# Altium footprint library con-amp-mt.PCBLIB: 51 footprints (part 1 of 4)
Each footprint in its own frame and in the unit in brackets; x right, y up, seen from the top. Pads: shape width x height; smd on the part's side, far side on the other; paste and mask are expansions set on the pad; w line width, h text height; cw(c..) or ccw(c..) is an arc to the next point about the centre after c.
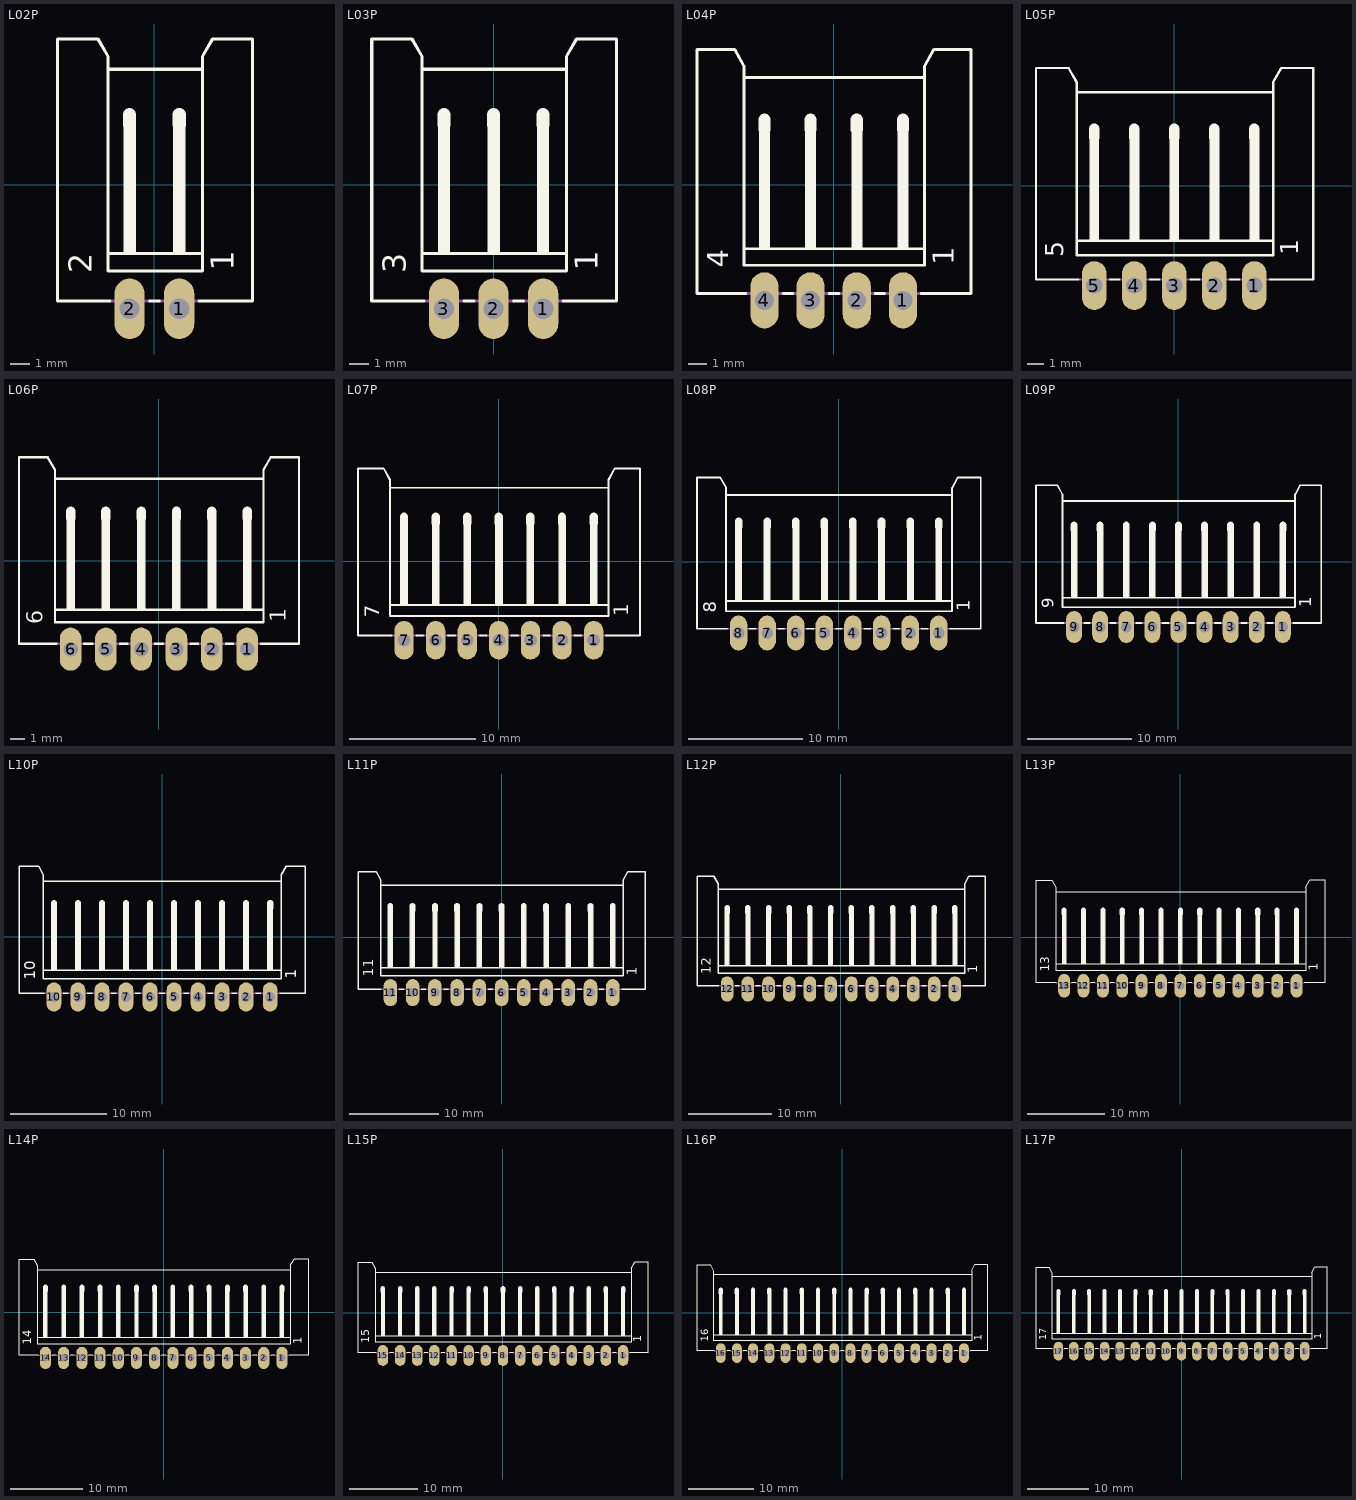
[diagram p0: the footprints below, top view; thin cyan lines are the x and y axes]

## L02P [mil]
pads (2):
  oval 60x120 hole 40: 1(49.21,-246.06) 2(-49.21,-246.06)
Top Overlay:
  rectangle: 37.21,-136.06 61.21,123.94
  rectangle: -60.79,-136.06 -36.79,123.94
  lines w6: -87.8,-231.06 -191.77,-231.06 -191.77,288.94 -111.77,288.94 -91.77,253.94 -91.77,228.94 ; -9.8,-231.06 10.2,-231.06 ; 88.23,-231.06 194.21,-231.06 194.21,288.94 115.2,288.94 95.2,253.94 95.2,228.94 ; -91.77,-136.06 95.2,-136.06 ; -91.77,-136.06 -91.77,-171.06 95.2,-171.06 95.2,-136.06 ; -91.77,-136.06 -91.77,228.94 ; -91.77,228.94 95.2,228.94 ; 95.2,-136.06 95.2,228.94
  lines w26: -49.21,118.94 -49.21,138.94 ; 49.21,118.94 49.21,138.94
  text "1" at 172.21,-171.06 h77.5
  text "2" at -109.79,-176.06 h77.5
Mechanical 16:
  rectangle: 37.21,-256.06 61.21,-231.06
  rectangle: -60.79,-256.06 -36.79,-231.06
  lines w6: -87.8,-231.06 -9.8,-231.06 ; 10.2,-231.06 88.23,-231.06

## L03P [mil]
pads (3):
  oval 60x120 hole 40: 1(98.43,-246.06) 2(0,-246.06) 3(-98.43,-246.06)
Top Overlay:
  rectangle: 86.43,-136.06 110.43,123.94
  rectangle: -11.57,-136.06 12.43,123.94
  rectangle: -110.57,-136.06 -86.57,123.94
  lines w6: -137.56,-231.06 -241.57,-231.06 -241.57,288.94 -161.57,288.94 -141.57,253.94 -141.57,228.94 ; -58.58,-231.06 -38.58,-231.06 ; 39.41,-231.06 59.41,-231.06 ; 137.44,-231.06 243.43,-231.06 243.43,288.94 164.41,288.94 144.41,253.94 144.41,228.94 ; -141.57,-136.06 144.41,-136.06 ; -141.57,-136.06 -141.57,-171.06 144.41,-171.06 144.41,-136.06 ; -141.57,-136.06 -141.57,228.94 ; -141.57,228.94 144.41,228.94 ; 144.41,-136.06 144.41,228.94
  lines w26: -98.58,118.94 -98.58,138.94 ; 0,118.94 0,138.94 ; 98.43,118.94 98.43,138.94
  text "1" at 221.43,-171.06 h77.5
  text "3" at -159.57,-176.06 h77.5
Mechanical 16:
  rectangle: 86.43,-256.06 110.43,-231.06
  rectangle: -11.57,-256.06 12.43,-231.06
  rectangle: -110.57,-256.06 -86.57,-231.06
  lines w6: -136.57,-231.06 -58.58,-231.06 ; -38.58,-231.06 39.41,-231.06 ; 59.41,-231.06 137.44,-231.06

## L04P [mil]
pads (4):
  oval 60x120 hole 40: 1(147.64,-246.06) 2(49.21,-246.06) 3(-49.21,-246.06) 4(-147.64,-246.06)
Top Overlay:
  rectangle: 135.64,-136.06 159.64,123.94
  rectangle: 37.64,-136.06 61.64,123.94
  rectangle: -61.36,-136.06 -37.36,123.94
  rectangle: -159.36,-136.06 -135.36,123.94
  lines w6: -187.36,-231.06 -291.38,-231.06 -291.38,288.94 -211.38,288.94 -191.38,253.94 -191.38,228.94 ; -108.35,-231.06 -87.36,-231.06 ; -9.37,-231.06 10.63,-231.06 ; 88.62,-231.06 108.62,-231.06 ; 186.65,-231.06 292.64,-231.06 292.64,288.94 213.62,288.94 193.62,253.94 193.62,228.94 ; -191.38,-136.06 193.62,-136.06 ; -191.38,-136.06 -191.38,-171.06 193.62,-171.06 193.62,-136.06 ; -191.38,-136.06 -191.38,228.94 ; -191.38,228.94 193.62,228.94 ; 193.62,-136.06 193.62,228.94
  lines w26: -147.64,118.94 -147.64,138.94 ; -49.37,118.94 -49.37,138.94 ; 49.21,118.94 49.21,138.94 ; 147.64,118.94 147.64,138.94
  text "1" at 270.64,-171.06 h77.5
  text "4" at -209.36,-176.06 h77.5
Mechanical 16:
  rectangle: 135.64,-256.06 159.64,-231.06
  rectangle: 37.64,-256.06 61.64,-231.06
  rectangle: -61.36,-256.06 -37.36,-231.06
  rectangle: -159.36,-256.06 -135.36,-231.06
  lines w6: -186.38,-231.06 -108.35,-231.06 ; -87.36,-231.06 -9.37,-231.06 ; 10.63,-231.06 88.62,-231.06 ; 108.62,-231.06 186.65,-231.06

## L05P [mil]
pads (5):
  oval 60x120 hole 40: 1(196.85,-246.06) 2(98.43,-246.06) 3(0,-246.06) 4(-98.43,-246.06) 5(-196.85,-246.06)
Top Overlay:
  rectangle: 184.85,-136.06 208.85,123.94
  rectangle: 86.85,-136.06 110.85,123.94
  rectangle: -12.15,-136.06 11.85,123.94
  rectangle: -110.15,-136.06 -86.15,123.94
  rectangle: -209.15,-136.06 -185.15,123.94
  lines w6: -236.14,-231.06 -340.16,-231.06 -340.16,288.94 -260.16,288.94 -240.16,253.94 -240.16,228.94 ; -157.17,-231.06 -137.17,-231.06 ; -59.13,-231.06 -38.15,-231.06 ; 39.84,-231.06 59.84,-231.06 ; 137.83,-231.06 157.83,-231.06 ; 235.87,-231.06 341.85,-231.06 341.85,288.94 262.83,288.94 242.83,253.94 242.83,228.94 ; -240.16,-136.06 242.83,-136.06 ; -240.16,-136.06 -240.16,-171.06 242.83,-171.06 242.83,-136.06 ; -240.16,-136.06 -240.16,228.94 ; -240.16,228.94 242.83,228.94 ; 242.83,-136.06 242.83,228.94
  lines w26: -197.17,118.94 -197.17,138.94 ; -98.43,118.94 -98.43,138.94 ; -0.16,118.94 -0.16,138.94 ; 98.43,118.94 98.43,138.94 ; 196.85,118.94 196.85,138.94
  text "1" at 319.85,-171.06 h77.5
  text "5" at -258.15,-176.06 h77.5
Mechanical 16:
  rectangle: 184.85,-256.06 208.85,-231.06
  rectangle: 86.85,-256.06 110.85,-231.06
  rectangle: -12.15,-256.06 11.85,-231.06
  rectangle: -110.15,-256.06 -86.15,-231.06
  rectangle: -209.15,-256.06 -185.15,-231.06
  lines w6: -234.13,-231.06 -157.17,-231.06 ; -137.17,-231.06 -59.13,-231.06 ; -38.15,-231.06 39.84,-231.06 ; 59.84,-231.06 137.83,-231.06 ; 157.83,-231.06 235.87,-231.06

## L06P [mil]
pads (6):
  oval 60x120 hole 40: 1(246.06,-246.06) 2(147.64,-246.06) 3(49.21,-246.06) 4(-49.21,-246.06) 5(-147.64,-246.06) 6(-246.06,-246.06)
Top Overlay:
  rectangle: 234.06,-136.06 258.06,123.94
  rectangle: 136.06,-136.06 160.06,123.94
  rectangle: 37.06,-136.06 61.06,123.94
  rectangle: -60.94,-136.06 -36.94,123.94
  rectangle: -159.94,-136.06 -135.94,123.94
  rectangle: -257.94,-136.06 -233.94,123.94
  lines w6: -285.94,-231.06 -389.94,-231.06 -389.94,288.94 -309.94,288.94 -289.92,253.94 -289.92,228.94 ; -207.95,-231.06 -184.92,-231.06 ; -107.95,-231.06 -87.95,-231.06 ; -9.92,-231.06 11.06,-231.06 ; 89.06,-231.06 109.06,-231.06 ; 187.06,-231.06 207.06,-231.06 ; 285.06,-231.06 391.06,-231.06 391.06,288.94 312.06,288.94 292.05,253.94 292.05,228.94 ; -289.94,-136.06 292.06,-136.06 ; -289.94,-136.06 -289.94,-171.06 292.06,-171.06 292.06,-136.06 ; -289.94,-136.06 -289.92,228.94 ; -289.92,228.94 292.05,228.94 ; 292.06,-136.06 292.05,228.94
  lines w26: -245.94,118.94 -245.94,138.94 ; -147.95,118.94 -147.94,138.94 ; -49.21,118.94 -49.21,138.94 ; 49.06,118.94 49.06,138.94 ; 147.64,118.94 147.64,138.94 ; 246.06,118.94 246.06,138.94
  text "1" at 369.06,-171.06 h77.5
  text "6" at -307.94,-176.06 h77.5
Mechanical 16:
  rectangle: 234.06,-256.06 258.06,-231.06
  rectangle: 136.06,-256.06 160.06,-231.06
  rectangle: 37.06,-256.06 61.06,-231.06
  rectangle: -60.94,-256.06 -36.94,-231.06
  rectangle: -159.94,-256.06 -135.94,-231.06
  rectangle: -257.94,-256.06 -233.94,-231.06
  lines w6: -285.94,-231.06 -207.95,-231.06 ; -184.92,-231.06 -107.95,-231.06 ; -87.95,-231.06 -9.92,-231.06 ; 11.06,-231.06 89.06,-231.06 ; 109.06,-231.06 187.06,-231.06 ; 207.06,-231.06 285.06,-231.06

## L07P [mil]
pads (7):
  oval 60x120 hole 40: 1(295.28,-246.06) 2(196.85,-246.06) 3(98.43,-246.06) 4(0,-246.06) 5(-98.43,-246.06) 6(-196.85,-246.06) 7(-295.28,-246.06)
Top Overlay:
  rectangle: 283.28,-136.06 307.28,123.94
  rectangle: 185.28,-136.06 209.28,123.94
  rectangle: 86.28,-136.06 110.28,123.94
  rectangle: -11.72,-136.06 12.28,123.94
  rectangle: -110.72,-136.06 -86.72,123.94
  rectangle: -208.72,-136.06 -184.72,123.94
  rectangle: -307.72,-136.06 -283.72,123.94
  lines w6: -334.72,-231.06 -438.74,-231.06 -438.74,288.94 -358.74,288.94 -338.74,253.94 -338.74,228.94 ; -256.73,-231.06 -236.73,-231.06 ; -158.74,-231.06 -135.71,-231.06 ; -58.74,-231.06 -38.74,-231.06 ; 39.29,-231.06 60.28,-231.06 ; 138.27,-231.06 158.27,-231.06 ; 236.26,-231.06 256.26,-231.06 ; 334.29,-231.06 440.28,-231.06 440.28,288.94 361.26,288.94 341.26,253.94 341.26,228.94 ; -338.74,-136.06 341.26,-136.06 ; -338.74,-136.06 -338.74,-171.06 341.26,-171.06 341.26,-136.06 ; -338.74,-136.06 -338.74,228.94 ; -338.74,228.94 341.26,228.94 ; 341.26,-136.06 341.26,228.94
  lines w26: -295.28,118.94 -295.28,138.94 ; -196.73,118.94 -196.73,138.94 ; -98.74,118.94 -98.74,138.94 ; 0,118.94 0,138.94 ; 98.27,118.94 98.27,138.94 ; 196.85,118.94 196.85,138.94 ; 295.28,118.94 295.28,138.94
  text "1" at 418.28,-171.06 h77.5
  text "7" at -356.72,-176.06 h77.5
Mechanical 16:
  rectangle: 283.28,-256.06 307.28,-231.06
  rectangle: 185.28,-256.06 209.28,-231.06
  rectangle: 86.28,-256.06 110.28,-231.06
  rectangle: -11.72,-256.06 12.28,-231.06
  rectangle: -110.72,-256.06 -86.72,-231.06
  rectangle: -208.72,-256.06 -184.72,-231.06
  rectangle: -307.72,-256.06 -283.72,-231.06
  lines w6: -334.72,-231.06 -256.73,-231.06 ; -236.73,-231.06 -158.74,-231.06 ; -135.71,-231.06 -58.74,-231.06 ; -38.74,-231.06 39.29,-231.06 ; 60.28,-231.06 138.27,-231.06 ; 158.27,-231.06 236.26,-231.06 ; 256.26,-231.06 334.29,-231.06

## L08P [mil]
pads (8):
  oval 60x120 hole 40: 1(344.49,-246.06) 2(246.06,-246.06) 3(147.64,-246.06) 4(49.21,-246.06) 5(-49.21,-246.06) 6(-147.64,-246.06) 7(-246.06,-246.06) 8(-344.49,-246.06)
Top Overlay:
  rectangle: 332.49,-136.06 356.49,123.94
  rectangle: 234.49,-136.06 258.49,123.94
  rectangle: 135.49,-136.06 159.49,123.94
  rectangle: 37.49,-136.06 61.49,123.94
  rectangle: -61.51,-136.06 -37.51,123.94
  rectangle: -159.51,-136.06 -135.51,123.94
  rectangle: -258.51,-136.06 -234.51,123.94
  rectangle: -356.51,-136.06 -332.51,123.94
  lines w6: -383.5,-231.06 -487.52,-231.06 -487.52,288.94 -407.52,288.94 -387.52,253.94 -387.52,228.94 ; -306.5,-231.06 -285.51,-231.06 ; -207.52,-231.06 -187.52,-231.06 ; -109.53,-231.06 -86.5,-231.06 ; -9.53,-231.06 10.47,-231.06 ; 88.5,-231.06 109.49,-231.06 ; 187.48,-231.06 207.48,-231.06 ; 285.47,-231.06 305.47,-231.06 ; 383.5,-231.06 489.49,-231.06 489.49,288.94 410.47,288.94 390.47,253.94 390.47,228.94 ; -387.52,-136.06 390.47,-136.06 ; -387.52,-136.06 -387.52,-171.06 390.47,-171.06 390.47,-136.06 ; -387.52,-136.06 -387.52,228.94 ; -387.52,228.94 390.47,228.94 ; 390.47,-136.06 390.47,228.94
  lines w26: -344.53,118.94 -344.53,138.94 ; -246.06,118.94 -246.06,138.94 ; -147.52,118.94 -147.52,138.94 ; -49.53,118.94 -49.53,138.94 ; 49.21,118.94 49.21,138.94 ; 147.48,118.94 147.48,138.94 ; 246.06,118.94 246.06,138.94 ; 344.49,118.94 344.49,138.94
  text "1" at 467.49,-171.06 h77.5
  text "8" at -405.51,-176.06 h77.5
Mechanical 16:
  rectangle: 332.49,-256.06 356.49,-231.06
  rectangle: 234.49,-256.06 258.49,-231.06
  rectangle: 135.49,-256.06 159.49,-231.06
  rectangle: 37.49,-256.06 61.49,-231.06
  rectangle: -61.51,-256.06 -37.51,-231.06
  rectangle: -159.51,-256.06 -135.51,-231.06
  rectangle: -258.51,-256.06 -234.51,-231.06
  rectangle: -356.51,-256.06 -332.51,-231.06
  lines w6: -384.53,-231.06 -306.5,-231.06 ; -285.51,-231.06 -207.52,-231.06 ; -187.52,-231.06 -109.53,-231.06 ; -86.5,-231.06 -9.53,-231.06 ; 10.47,-231.06 88.5,-231.06 ; 109.49,-231.06 187.48,-231.06 ; 207.48,-231.06 285.47,-231.06 ; 305.47,-231.06 383.5,-231.06

## L09P [mil]
pads (9):
  oval 60x120 hole 40: 1(393.7,-246.06) 2(295.28,-246.06) 3(196.85,-246.06) 4(98.43,-246.06) 5(0,-246.06) 6(-98.43,-246.06) 7(-196.85,-246.06) 8(-295.28,-246.06) 9(-393.7,-246.06)
Top Overlay:
  rectangle: 381.7,-136.06 405.7,123.94
  rectangle: 283.7,-136.06 307.7,123.94
  rectangle: 184.7,-136.06 208.7,123.94
  rectangle: 86.7,-136.06 110.7,123.94
  rectangle: -12.3,-136.06 11.7,123.94
  rectangle: -110.3,-136.06 -86.3,123.94
  rectangle: -209.3,-136.06 -185.3,123.94
  rectangle: -307.3,-136.06 -283.3,123.94
  rectangle: -405.3,-136.06 -381.3,123.94
  lines w6: -433.31,-231.06 -537.28,-231.06 -537.28,288.94 -457.28,288.94 -437.28,253.94 -437.28,228.94 ; -355.32,-231.06 -335.32,-231.06 ; -257.28,-231.06 -236.3,-231.06 ; -158.31,-231.06 -138.31,-231.06 ; -60.32,-231.06 -37.28,-231.06 ; 39.69,-231.06 59.69,-231.06 ; 137.72,-231.06 158.7,-231.06 ; 236.69,-231.06 256.69,-231.06 ; 334.69,-231.06 354.69,-231.06 ; 432.72,-231.06 538.7,-231.06 538.7,288.94 459.69,288.94 439.69,253.94 439.69,228.94 ; -437.28,-136.06 439.69,-136.06 ; -437.28,-136.06 -437.28,-171.06 439.69,-171.06 439.69,-136.06 ; -437.28,-136.06 -437.28,228.94 ; -437.28,228.94 439.69,228.94 ; 439.69,-136.06 439.69,228.94
  lines w26: -393.31,118.94 -393.31,138.94 ; -295.32,118.94 -295.32,138.94 ; -196.85,118.94 -196.85,138.94 ; -98.31,118.94 -98.31,138.94 ; -0.32,118.94 -0.32,138.94 ; 98.43,118.94 98.43,138.94 ; 196.69,118.94 196.69,138.94 ; 295.28,118.94 295.28,138.94 ; 393.7,118.94 393.7,138.94
  text "1" at 516.7,-171.06 h77.5
  text "9" at -455.3,-176.06 h77.5
Mechanical 16:
  rectangle: 381.7,-256.06 405.7,-231.06
  rectangle: 283.7,-256.06 307.7,-231.06
  rectangle: 184.7,-256.06 208.7,-231.06
  rectangle: 86.7,-256.06 110.7,-231.06
  rectangle: -12.3,-256.06 11.7,-231.06
  rectangle: -110.3,-256.06 -86.3,-231.06
  rectangle: -209.3,-256.06 -185.3,-231.06
  rectangle: -307.3,-256.06 -283.3,-231.06
  rectangle: -405.3,-256.06 -381.3,-231.06
  lines w6: -433.31,-231.06 -355.32,-231.06 ; -335.32,-231.06 -257.28,-231.06 ; -236.3,-231.06 -158.31,-231.06 ; -138.31,-231.06 -60.32,-231.06 ; -37.28,-231.06 39.69,-231.06 ; 59.69,-231.06 137.72,-231.06 ; 158.7,-231.06 236.69,-231.06 ; 256.69,-231.06 334.69,-231.06 ; 354.69,-231.06 432.72,-231.06

## L10P [mil]
pads (10):
  oval 60x120 hole 40: 1(442.91,-246.06) 2(344.49,-246.06) 3(246.06,-246.06) 4(147.64,-246.06) 5(49.21,-246.06) 6(-49.21,-246.06) 7(-147.64,-246.06) 8(-246.06,-246.06) 9(-344.49,-246.06) 10(-442.91,-246.06)
Top Overlay:
  rectangle: 430.91,-136.06 454.91,123.94
  rectangle: 332.91,-136.06 356.91,123.94
  rectangle: 233.91,-136.06 257.91,123.94
  rectangle: 135.91,-136.06 159.91,123.94
  rectangle: 36.91,-136.06 60.91,123.94
  rectangle: -61.09,-136.06 -37.09,123.94
  rectangle: -160.09,-136.06 -136.09,123.94
  rectangle: -258.09,-136.06 -234.09,123.94
  rectangle: -356.09,-136.06 -332.09,123.94
  rectangle: -455.09,-136.06 -431.09,123.94
  lines w6: -482.09,-231.06 -586.1,-231.06 -586.1,288.94 -506.1,288.94 -486.1,253.94 -486.1,228.94 ; -404.09,-231.06 -384.09,-231.06 ; -306.1,-231.06 -286.1,-231.06 ; -208.07,-231.06 -187.09,-231.06 ; -109.09,-231.06 -89.09,-231.06 ; -11.1,-231.06 11.93,-231.06 ; 88.9,-231.06 108.9,-231.06 ; 186.93,-231.06 207.91,-231.06 ; 285.91,-231.06 305.91,-231.06 ; 383.9,-231.06 403.9,-231.06 ; 481.93,-231.06 587.91,-231.06 587.91,288.94 508.9,288.94 488.9,253.94 488.9,228.94 ; -486.1,-136.06 488.9,-136.06 ; -486.1,-136.06 -486.1,-171.06 488.9,-171.06 488.9,-136.06 ; -486.1,-136.06 -486.1,228.94 ; -486.1,228.94 488.9,228.94 ; 488.9,-136.06 488.9,228.94
  lines w26: -442.91,118.94 -442.91,138.94 ; -344.09,118.94 -344.09,138.94 ; -246.1,118.94 -246.1,138.94 ; -147.64,118.94 -147.64,138.94 ; -49.09,118.94 -49.09,138.94 ; 48.9,118.94 48.9,138.94 ; 147.64,118.94 147.64,138.94 ; 245.91,118.94 245.91,138.94 ; 344.49,118.94 344.49,138.94 ; 442.91,118.94 442.91,138.94
  text "1" at 565.91,-171.06 h77.5
  text "10" at -504.09,-176.06 h77.5
Mechanical 16:
  rectangle: 430.91,-256.06 454.91,-231.06
  rectangle: 332.91,-256.06 356.91,-231.06
  rectangle: 233.91,-256.06 257.91,-231.06
  rectangle: 135.91,-256.06 159.91,-231.06
  rectangle: 36.91,-256.06 60.91,-231.06
  rectangle: -61.09,-256.06 -37.09,-231.06
  rectangle: -160.09,-256.06 -136.09,-231.06
  rectangle: -258.09,-256.06 -234.09,-231.06
  rectangle: -356.09,-256.06 -332.09,-231.06
  rectangle: -455.09,-256.06 -431.09,-231.06
  lines w6: -482.09,-231.06 -404.09,-231.06 ; -384.09,-231.06 -306.1,-231.06 ; -286.1,-231.06 -208.07,-231.06 ; -187.09,-231.06 -109.09,-231.06 ; -89.09,-231.06 -11.1,-231.06 ; 11.93,-231.06 88.9,-231.06 ; 108.9,-231.06 186.93,-231.06 ; 207.91,-231.06 285.91,-231.06 ; 305.91,-231.06 383.9,-231.06 ; 403.9,-231.06 481.93,-231.06

## L11P [mil]
pads (11):
  oval 60x120 hole 40: 1(492.13,-246.06) 2(393.7,-246.06) 3(295.28,-246.06) 4(196.85,-246.06) 5(98.43,-246.06) 6(0,-246.06) 7(-98.43,-246.06) 8(-196.85,-246.06) 9(-295.28,-246.06) 10(-393.7,-246.06) 11(-492.13,-246.06)
Top Overlay:
  rectangle: 480.13,-136.06 504.13,123.94
  rectangle: 382.13,-136.06 406.13,123.94
  rectangle: 283.13,-136.06 307.13,123.94
  rectangle: 185.13,-136.06 209.13,123.94
  rectangle: 86.13,-136.06 110.13,123.94
  rectangle: -11.87,-136.06 12.13,123.94
  rectangle: -110.87,-136.06 -86.87,123.94
  rectangle: -208.87,-136.06 -184.87,123.94
  rectangle: -306.87,-136.06 -282.87,123.94
  rectangle: -406.87,-136.06 -382.87,123.94
  rectangle: -504.87,-136.06 -480.87,123.94
  lines w6: -531.89,-231.06 -635.87,-231.06 -635.87,288.94 -555.87,288.94 -535.87,253.94 -535.87,228.94 ; -452.87,-231.06 -432.87,-231.06 ; -354.88,-231.06 -334.88,-231.06 ; -256.89,-231.06 -236.89,-231.06 ; -158.86,-231.06 -137.87,-231.06 ; -59.88,-231.06 -39.88,-231.06 ; 38.11,-231.06 61.14,-231.06 ; 138.11,-231.06 158.11,-231.06 ; 236.14,-231.06 257.13,-231.06 ; 335.12,-231.06 355.12,-231.06 ; 433.11,-231.06 453.11,-231.06 ; 531.14,-231.06 637.13,-231.06 637.13,288.94 558.11,288.94 538.11,253.94 538.11,228.94 ; -535.87,-136.06 538.11,-136.06 ; -535.87,-136.06 -535.87,-171.06 538.11,-171.06 538.11,-136.06 ; -535.87,-136.06 -535.87,228.94 ; -535.87,228.94 538.11,228.94 ; 538.11,-136.06 538.11,228.94
  lines w26: -492.87,118.94 -492.87,138.94 ; -394.88,118.94 -394.88,138.94 ; -294.88,118.94 -294.88,138.94 ; -196.89,118.94 -196.89,138.94 ; -98.43,118.94 -98.43,138.94 ; 0.12,118.94 0.12,138.94 ; 98.11,118.94 98.11,138.94 ; 196.85,118.94 196.85,138.94 ; 295.12,118.94 295.12,138.94 ; 393.7,118.94 393.7,138.94 ; 492.13,118.94 492.13,138.94
  text "1" at 615.13,-171.06 h77.5
  text "11" at -553.87,-176.06 h77.5
Mechanical 16:
  rectangle: 480.13,-256.06 504.13,-231.06
  rectangle: 382.13,-256.06 406.13,-231.06
  rectangle: 283.13,-256.06 307.13,-231.06
  rectangle: 185.13,-256.06 209.13,-231.06
  rectangle: 86.13,-256.06 110.13,-231.06
  rectangle: -11.87,-256.06 12.13,-231.06
  rectangle: -110.87,-256.06 -86.87,-231.06
  rectangle: -208.87,-256.06 -184.87,-231.06
  rectangle: -306.87,-256.06 -282.87,-231.06
  rectangle: -405.87,-256.06 -381.87,-231.06
  rectangle: -503.87,-256.06 -479.87,-231.06
  lines w6: -530.87,-231.06 -452.87,-231.06 ; -432.87,-231.06 -354.88,-231.06 ; -334.88,-231.06 -256.89,-231.06 ; -236.89,-231.06 -158.86,-231.06 ; -137.87,-231.06 -59.88,-231.06 ; -39.88,-231.06 38.11,-231.06 ; 61.14,-231.06 138.11,-231.06 ; 158.11,-231.06 236.14,-231.06 ; 257.13,-231.06 335.12,-231.06 ; 355.12,-231.06 433.11,-231.06 ; 453.11,-231.06 531.14,-231.06

## L12P [mil]
pads (12):
  oval 60x120 hole 40: 1(541.34,-246.06) 2(442.91,-246.06) 3(344.49,-246.06) 4(246.06,-246.06) 5(147.64,-246.06) 6(49.21,-246.06) 7(-49.21,-246.06) 8(-147.64,-246.06) 9(-246.06,-246.06) 10(-344.49,-246.06) 11(-442.91,-246.06) 12(-541.34,-246.06)
Top Overlay:
  rectangle: 529.34,-136.06 553.34,123.94
  rectangle: 431.34,-136.06 455.34,123.94
  rectangle: 332.34,-136.06 356.34,123.94
  rectangle: 234.34,-136.06 258.34,123.94
  rectangle: 135.34,-136.06 159.34,123.94
  rectangle: 37.34,-136.06 61.34,123.94
  rectangle: -61.66,-136.06 -37.66,123.94
  rectangle: -159.66,-136.06 -135.66,123.94
  rectangle: -257.66,-136.06 -233.66,123.94
  rectangle: -356.66,-136.06 -332.66,123.94
  rectangle: -454.66,-136.06 -430.66,123.94
  rectangle: -553.66,-136.06 -529.66,123.94
  lines w6: -580.67,-231.06 -684.65,-231.06 -684.65,288.94 -604.65,288.94 -584.65,253.94 -584.65,228.94 ; -502.68,-231.06 -482.68,-231.06 ; -404.65,-231.06 -384.65,-231.06 ; -305.67,-231.06 -285.67,-231.06 ; -207.68,-231.06 -187.68,-231.06 ; -109.65,-231.06 -88.66,-231.06 ; -10.67,-231.06 9.33,-231.06 ; 87.32,-231.06 110.35,-231.06 ; 187.32,-231.06 207.32,-231.06 ; 285.35,-231.06 306.34,-231.06 ; 384.33,-231.06 404.33,-231.06 ; 482.32,-231.06 502.32,-231.06 ; 580.35,-231.06 686.34,-231.06 686.34,288.94 607.32,288.94 587.32,253.94 587.32,228.94 ; -584.65,-136.06 587.32,-136.06 ; -584.65,-136.06 -584.65,-171.06 587.32,-171.06 587.32,-136.06 ; -584.65,-136.06 -584.65,228.94 ; -584.65,228.94 587.32,228.94 ; 587.32,-136.06 587.32,228.94
  lines w26: -541.34,118.94 -541.34,138.94 ; -442.91,118.94 -442.91,138.94 ; -344.49,118.94 -344.49,138.94 ; -245.67,118.94 -245.67,138.94 ; -147.68,118.94 -147.68,138.94 ; -49.21,118.94 -49.21,138.94 ; 49.33,118.94 49.33,138.94 ; 147.32,118.94 147.32,138.94 ; 246.06,118.94 246.06,138.94 ; 344.33,118.94 344.33,138.94 ; 442.91,118.94 442.91,138.94 ; 541.34,118.94 541.34,138.94
  text "1" at 664.34,-171.06 h77.5
  text "12" at -602.66,-176.06 h77.5
Mechanical 16:
  rectangle: 529.34,-256.06 553.34,-231.06
  rectangle: 431.34,-256.06 455.34,-231.06
  rectangle: 332.34,-256.06 356.34,-231.06
  rectangle: 234.34,-256.06 258.34,-231.06
  rectangle: 135.34,-256.06 159.34,-231.06
  rectangle: 37.34,-256.06 61.34,-231.06
  rectangle: -61.66,-256.06 -37.66,-231.06
  rectangle: -159.66,-256.06 -135.66,-231.06
  rectangle: -257.66,-256.06 -233.66,-231.06
  rectangle: -356.66,-256.06 -332.66,-231.06
  rectangle: -454.66,-256.06 -430.66,-231.06
  rectangle: -553.66,-256.06 -529.66,-231.06
  lines w6: -580.67,-231.06 -502.68,-231.06 ; -481.65,-231.06 -403.66,-231.06 ; -383.66,-231.06 -305.67,-231.06 ; -285.67,-231.06 -207.68,-231.06 ; -187.68,-231.06 -109.65,-231.06 ; -88.66,-231.06 -10.67,-231.06 ; 9.33,-231.06 87.32,-231.06 ; 110.35,-231.06 187.32,-231.06 ; 207.32,-231.06 285.35,-231.06 ; 306.34,-231.06 384.33,-231.06 ; 404.33,-231.06 482.32,-231.06 ; 502.32,-231.06 580.35,-231.06

## L13P [mil]
pads (13):
  oval 60x120 hole 40: 1(590.55,-246.06) 2(492.13,-246.06) 3(393.7,-246.06) 4(295.28,-246.06) 5(196.85,-246.06) 6(98.43,-246.06) 7(0,-246.06) 8(-98.43,-246.06) 9(-196.85,-246.06) 10(-295.28,-246.06) 11(-393.7,-246.06) 12(-492.13,-246.06) 13(-590.55,-246.06)
Top Overlay:
  rectangle: 578.55,-136.06 602.55,123.94
  rectangle: 480.55,-136.06 504.55,123.94
  rectangle: 381.55,-136.06 405.55,123.94
  rectangle: 283.55,-136.06 307.55,123.94
  rectangle: 184.55,-136.06 208.55,123.94
  rectangle: 86.55,-136.06 110.55,123.94
  rectangle: -12.45,-136.06 11.55,123.94
  rectangle: -110.45,-136.06 -86.45,123.94
  rectangle: -208.45,-136.06 -184.45,123.94
  rectangle: -307.45,-136.06 -283.45,123.94
  rectangle: -405.45,-136.06 -381.45,123.94
  rectangle: -504.45,-136.06 -480.45,123.94
  rectangle: -602.45,-136.06 -578.45,123.94
  lines w6: -630.43,-231.06 -733.46,-231.06 -733.46,288.94 -653.46,288.94 -633.46,253.94 -633.46,228.94 ; -552.44,-231.06 -532.44,-231.06 ; -454.45,-231.06 -434.45,-231.06 ; -355.43,-231.06 -335.43,-231.06 ; -256.46,-231.06 -236.46,-231.06 ; -158.46,-231.06 -138.46,-231.06 ; -60.43,-231.06 -39.45,-231.06 ; 38.54,-231.06 58.54,-231.06 ; 136.54,-231.06 159.57,-231.06 ; 236.54,-231.06 256.54,-231.06 ; 334.57,-231.06 355.55,-231.06 ; 433.54,-231.06 453.54,-231.06 ; 531.54,-231.06 551.54,-231.06 ; 629.57,-231.06 735.55,-231.06 735.55,288.94 656.54,288.94 636.54,253.94 636.54,228.94 ; -633.46,-136.06 636.54,-136.06 ; -633.46,-136.06 -633.46,-171.06 636.54,-171.06 636.54,-136.06 ; -633.46,-136.06 -633.46,228.94 ; -633.46,228.94 636.54,228.94 ; 636.54,-136.06 636.54,228.94
  lines w26: -590.55,118.94 -590.55,138.94 ; -492.13,118.94 -492.13,138.94 ; -393.7,118.94 -393.7,138.94 ; -295.28,118.94 -295.28,138.94 ; -196.46,118.94 -196.46,138.94 ; -98.46,118.94 -98.46,138.94 ; 0,118.94 0,138.94 ; 98.54,118.94 98.54,138.94 ; 196.54,118.94 196.54,138.94 ; 295.28,118.94 295.28,138.94 ; 393.54,118.94 393.54,138.94 ; 492.13,118.94 492.13,138.94 ; 590.55,118.94 590.55,138.94
  text "1" at 713.55,-171.06 h77.5
  text "13" at -651.45,-176.06 h77.5
Mechanical 16:
  rectangle: 578.55,-256.06 602.55,-231.06
  rectangle: 480.55,-256.06 504.55,-231.06
  rectangle: 381.55,-256.06 405.55,-231.06
  rectangle: 283.55,-256.06 307.55,-231.06
  rectangle: 184.55,-256.06 208.55,-231.06
  rectangle: 86.55,-256.06 110.55,-231.06
  rectangle: -12.45,-256.06 11.55,-231.06
  rectangle: -110.45,-256.06 -86.45,-231.06
  rectangle: -208.45,-256.06 -184.45,-231.06
  rectangle: -307.45,-256.06 -283.45,-231.06
  rectangle: -405.45,-256.06 -381.45,-231.06
  rectangle: -504.45,-256.06 -480.45,-231.06
  rectangle: -602.45,-256.06 -578.45,-231.06
  lines w6: -629.45,-231.06 -551.46,-231.06 ; -531.46,-231.06 -453.46,-231.06 ; -432.44,-231.06 -354.45,-231.06 ; -334.45,-231.06 -256.46,-231.06 ; -236.46,-231.06 -158.46,-231.06 ; -138.46,-231.06 -60.43,-231.06 ; -39.45,-231.06 38.54,-231.06 ; 58.54,-231.06 136.54,-231.06 ; 159.57,-231.06 236.54,-231.06 ; 256.54,-231.06 334.57,-231.06 ; 355.55,-231.06 433.54,-231.06 ; 453.54,-231.06 531.54,-231.06 ; 551.54,-231.06 629.57,-231.06

## L14P [mil]
pads (14):
  oval 60x120 hole 40: 1(639.76,-246.06) 2(541.34,-246.06) 3(442.91,-246.06) 4(344.49,-246.06) 5(246.06,-246.06) 6(147.64,-246.06) 7(49.21,-246.06) 8(-49.21,-246.06) 9(-147.64,-246.06) 10(-246.06,-246.06) 11(-344.49,-246.06) 12(-442.91,-246.06) 13(-541.34,-246.06) 14(-639.76,-246.06)
Top Overlay:
  rectangle: 627.76,-136.06 651.76,123.94
  rectangle: 529.76,-136.06 553.76,123.94
  rectangle: 430.76,-136.06 454.76,123.94
  rectangle: 332.76,-136.06 356.76,123.94
  rectangle: 233.76,-136.06 257.76,123.94
  rectangle: 135.76,-136.06 159.76,123.94
  rectangle: 36.76,-136.06 60.76,123.94
  rectangle: -61.24,-136.06 -37.24,123.94
  rectangle: -159.24,-136.06 -135.24,123.94
  rectangle: -258.24,-136.06 -234.24,123.94
  rectangle: -356.24,-136.06 -332.24,123.94
  rectangle: -455.24,-136.06 -431.24,123.94
  rectangle: -553.24,-136.06 -529.24,123.94
  rectangle: -652.24,-136.06 -628.24,123.94
  lines w6: -679.25,-231.06 -783.23,-231.06 -783.23,288.94 -703.23,288.94 -683.23,253.94 -683.23,228.94 ; -602.24,-231.06 -582.24,-231.06 ; -503.23,-231.06 -483.23,-231.06 ; -405.24,-231.06 -385.24,-231.06 ; -306.22,-231.06 -286.22,-231.06 ; -207.24,-231.06 -187.24,-231.06 ; -109.25,-231.06 -89.25,-231.06 ; -11.22,-231.06 9.76,-231.06 ; 87.76,-231.06 107.76,-231.06 ; 185.75,-231.06 208.78,-231.06 ; 285.75,-231.06 305.75,-231.06 ; 383.78,-231.06 404.76,-231.06 ; 482.76,-231.06 502.76,-231.06 ; 580.75,-231.06 600.75,-231.06 ; 678.78,-231.06 784.76,-231.06 784.76,288.94 705.75,288.94 685.75,253.94 685.75,228.94 ; -683.23,-136.06 685.75,-136.06 ; -683.23,-136.06 -683.23,-171.06 685.75,-171.06 685.75,-136.06 ; -683.23,-136.06 -683.23,228.94 ; -683.23,228.94 685.75,228.94 ; 685.75,-136.06 685.75,228.94
  lines w26: -639.76,118.94 -639.76,138.94 ; -541.34,118.94 -541.34,138.94 ; -442.91,118.94 -442.91,138.94 ; -344.49,118.94 -344.49,138.94 ; -246.06,118.94 -246.06,138.94 ; -147.24,118.94 -147.24,138.94 ; -49.25,118.94 -49.25,138.94 ; 49.21,118.94 49.21,138.94 ; 147.76,118.94 147.76,138.94 ; 245.75,118.94 245.75,138.94 ; 344.49,118.94 344.49,138.94 ; 442.76,118.94 442.76,138.94 ; 541.34,118.94 541.34,138.94 ; 639.76,118.94 639.76,138.94
  text "1" at 762.76,-171.06 h77.5
  text "14" at -701.24,-176.06 h77.5
Mechanical 16:
  rectangle: 627.76,-256.06 651.76,-231.06
  rectangle: 529.76,-256.06 553.76,-231.06
  rectangle: 430.76,-256.06 454.76,-231.06
  rectangle: 332.76,-256.06 356.76,-231.06
  rectangle: 233.76,-256.06 257.76,-231.06
  rectangle: 135.76,-256.06 159.76,-231.06
  rectangle: 36.76,-256.06 60.76,-231.06
  rectangle: -61.24,-256.06 -37.24,-231.06
  rectangle: -159.24,-256.06 -135.24,-231.06
  rectangle: -258.24,-256.06 -234.24,-231.06
  rectangle: -356.24,-256.06 -332.24,-231.06
  rectangle: -455.24,-256.06 -431.24,-231.06
  rectangle: -553.24,-256.06 -529.24,-231.06
  rectangle: -652.24,-256.06 -628.24,-231.06
  lines w6: -679.25,-231.06 -601.22,-231.06 ; -580.24,-231.06 -502.24,-231.06 ; -482.24,-231.06 -404.25,-231.06 ; -383.23,-231.06 -305.24,-231.06 ; -285.24,-231.06 -207.24,-231.06 ; -187.24,-231.06 -109.25,-231.06 ; -89.25,-231.06 -11.22,-231.06 ; 9.76,-231.06 87.76,-231.06 ; 107.76,-231.06 185.75,-231.06 ; 208.78,-231.06 285.75,-231.06 ; 305.75,-231.06 383.78,-231.06 ; 404.76,-231.06 482.76,-231.06 ; 502.76,-231.06 580.75,-231.06 ; 600.75,-231.06 678.78,-231.06

## L15P [mil]
pads (15):
  oval 60x120 hole 40: 1(688.98,-246.06) 2(590.55,-246.06) 3(492.13,-246.06) 4(393.7,-246.06) 5(295.28,-246.06) 6(196.85,-246.06) 7(98.43,-246.06) 8(0,-246.06) 9(-98.43,-246.06) 10(-196.85,-246.06) 11(-295.28,-246.06) 12(-393.7,-246.06) 13(-492.13,-246.06) 14(-590.55,-246.06) 15(-688.98,-246.06)
Top Overlay:
  rectangle: 676.98,-136.06 700.98,123.94
  rectangle: 578.98,-136.06 602.98,123.94
  rectangle: 479.98,-136.06 503.98,123.94
  rectangle: 381.98,-136.06 405.98,123.94
  rectangle: 282.98,-136.06 306.98,123.94
  rectangle: 184.98,-136.06 208.98,123.94
  rectangle: 85.98,-136.06 109.98,123.94
  rectangle: -12.02,-136.06 11.98,123.94
  rectangle: -110.02,-136.06 -86.02,123.94
  rectangle: -209.02,-136.06 -185.02,123.94
  rectangle: -307.02,-136.06 -283.02,123.94
  rectangle: -406.02,-136.06 -382.02,123.94
  rectangle: -504.02,-136.06 -480.02,123.94
  rectangle: -603.02,-136.06 -579.02,123.94
  rectangle: -701.02,-136.06 -677.02,123.94
  lines w6: -728.03,-231.06 -832.01,-231.06 -832.01,288.94 -752.01,288.94 -732.01,253.94 -732.01,228.94 ; -650.04,-231.06 -630.04,-231.06 ; -552.01,-231.06 -532.01,-231.06 ; -453.03,-231.06 -433.03,-231.06 ; -355.04,-231.06 -335.04,-231.06 ; -256.02,-231.06 -236.02,-231.06 ; -158.03,-231.06 -138.03,-231.06 ; -60.04,-231.06 -40.04,-231.06 ; 37.99,-231.06 58.98,-231.06 ; 136.97,-231.06 156.97,-231.06 ; 234.96,-231.06 257.99,-231.06 ; 334.96,-231.06 354.96,-231.06 ; 432.99,-231.06 453.98,-231.06 ; 531.97,-231.06 551.97,-231.06 ; 629.96,-231.06 649.96,-231.06 ; 727.99,-231.06 833.98,-231.06 833.98,288.94 754.96,288.94 734.96,253.94 734.96,228.94 ; -732.01,-136.06 734.96,-136.06 ; -732.01,-136.06 -732.01,-171.06 734.96,-171.06 734.96,-136.06 ; -732.01,-136.06 -732.01,228.94 ; -732.01,228.94 734.96,228.94 ; 734.96,-136.06 734.96,228.94
  lines w26: -688.98,118.94 -688.98,138.94 ; -590.55,118.94 -590.55,138.94 ; -492.13,118.94 -492.13,138.94 ; -393.7,118.94 -393.7,138.94 ; -295.28,118.94 -295.28,138.94 ; -196.85,118.94 -196.85,138.94 ; -98.03,118.94 -98.03,138.94 ; -0.04,118.94 -0.04,138.94 ; 98.43,118.94 98.43,138.94 ; 196.97,118.94 196.97,138.94 ; 294.96,118.94 294.96,138.94 ; 393.7,118.94 393.7,138.94 ; 491.97,118.94 491.97,138.94 ; 590.55,118.94 590.55,138.94 ; 688.98,118.94 688.98,138.94
  text "1" at 811.98,-171.06 h77.5
  text "15" at -750.02,-176.06 h77.5
Mechanical 16:
  rectangle: 676.98,-256.06 700.98,-231.06
  rectangle: 578.98,-256.06 602.98,-231.06
  rectangle: 479.98,-256.06 503.98,-231.06
  rectangle: 381.98,-256.06 405.98,-231.06
  rectangle: 282.98,-256.06 306.98,-231.06
  rectangle: 184.98,-256.06 208.98,-231.06
  rectangle: 85.98,-256.06 109.98,-231.06
  rectangle: -12.02,-256.06 11.98,-231.06
  rectangle: -110.02,-256.06 -86.02,-231.06
  rectangle: -209.02,-256.06 -185.02,-231.06
  rectangle: -307.02,-256.06 -283.02,-231.06
  rectangle: -406.02,-256.06 -382.02,-231.06
  rectangle: -504.02,-256.06 -480.02,-231.06
  rectangle: -603.02,-256.06 -579.02,-231.06
  rectangle: -701.02,-256.06 -677.02,-231.06
  lines w6: -728.03,-231.06 -650.04,-231.06 ; -630.04,-231.06 -552.01,-231.06 ; -531.02,-231.06 -453.03,-231.06 ; -433.03,-231.06 -355.04,-231.06 ; -334.02,-231.06 -256.02,-231.06 ; -236.02,-231.06 -158.03,-231.06 ; -138.03,-231.06 -60.04,-231.06 ; -40.04,-231.06 37.99,-231.06 ; 58.98,-231.06 136.97,-231.06 ; 156.97,-231.06 234.96,-231.06 ; 257.99,-231.06 334.96,-231.06 ; 354.96,-231.06 432.99,-231.06 ; 453.98,-231.06 531.97,-231.06 ; 551.97,-231.06 629.96,-231.06 ; 649.96,-231.06 727.99,-231.06

## L16P [mil]
pads (16):
  oval 60x120 hole 40: 1(738.19,-246.06) 2(639.76,-246.06) 3(541.34,-246.06) 4(442.91,-246.06) 5(344.49,-246.06) 6(246.06,-246.06) 7(147.64,-246.06) 8(49.21,-246.06) 9(-49.21,-246.06) 10(-147.64,-246.06) 11(-246.06,-246.06) 12(-344.49,-246.06) 13(-442.91,-246.06) 14(-541.34,-246.06) 15(-639.76,-246.06) 16(-737.81,-246.06)
Top Overlay:
  rectangle: 726.19,-136.06 750.19,123.94
  rectangle: 628.19,-136.06 652.19,123.94
  rectangle: 529.19,-136.06 553.19,123.94
  rectangle: 431.19,-136.06 455.19,123.94
  rectangle: 332.19,-136.06 356.19,123.94
  rectangle: 234.19,-136.06 258.19,123.94
  rectangle: 135.19,-136.06 159.19,123.94
  rectangle: 37.19,-136.06 61.19,123.94
  rectangle: -60.81,-136.06 -36.81,123.94
  rectangle: -159.81,-136.06 -135.81,123.94
  rectangle: -257.81,-136.06 -233.81,123.94
  rectangle: -356.81,-136.06 -332.81,123.94
  rectangle: -454.81,-136.06 -430.81,123.94
  rectangle: -553.81,-136.06 -529.81,123.94
  rectangle: -651.81,-136.06 -627.81,123.94
  rectangle: -749.81,-136.06 -725.81,123.94
  lines w6: -777.8,-231.06 -881.81,-231.06 -881.81,288.94 -801.81,288.94 -781.81,253.94 -781.81,228.94 ; -698.82,-231.06 -678.82,-231.06 ; -600.83,-231.06 -580.83,-231.06 ; -501.81,-231.06 -481.81,-231.06 ; -403.82,-231.06 -383.82,-231.06 ; -305.83,-231.06 -285.83,-231.06 ; -207.8,-231.06 -187.8,-231.06 ; -108.82,-231.06 -88.82,-231.06 ; -10.83,-231.06 9.17,-231.06 ; 87.2,-231.06 108.19,-231.06 ; 186.18,-231.06 206.18,-231.06 ; 284.17,-231.06 307.2,-231.06 ; 384.17,-231.06 404.17,-231.06 ; 482.2,-231.06 503.19,-231.06 ; 581.18,-231.06 601.18,-231.06 ; 679.17,-231.06 699.17,-231.06 ; 777.2,-231.06 883.19,-231.06 883.19,288.94 804.17,288.94 784.17,253.94 784.17,228.94 ; -781.81,-136.06 784.17,-136.06 ; -781.81,-136.06 -781.81,-171.06 784.17,-171.06 784.17,-136.06 ; -781.81,-136.06 -781.81,228.94 ; -781.81,228.94 784.17,228.94 ; 784.17,-136.06 784.17,228.94
  lines w26: -737.8,118.94 -737.8,138.94 ; -639.76,118.94 -639.76,138.94 ; -541.34,118.94 -541.34,138.94 ; -442.91,118.94 -442.91,138.94 ; -344.49,118.94 -344.49,138.94 ; -246.06,118.94 -246.06,138.94 ; -147.64,118.94 -147.64,138.94 ; -48.82,118.94 -48.82,138.94 ; 49.17,118.94 49.17,138.94 ; 147.64,118.94 147.64,138.94 ; 246.18,118.94 246.18,138.94 ; 344.17,118.94 344.17,138.94 ; 442.91,118.94 442.91,138.94 ; 541.18,118.94 541.18,138.94 ; 639.76,118.94 639.76,138.94 ; 738.19,118.94 738.19,138.94
  text "1" at 861.19,-171.06 h77.5
  text "16" at -799.81,-176.06 h77.5
Mechanical 16:
  rectangle: 726.19,-256.06 750.19,-231.06
  rectangle: 628.19,-256.06 652.19,-231.06
  rectangle: 529.19,-256.06 553.19,-231.06
  rectangle: 431.19,-256.06 455.19,-231.06
  rectangle: 332.19,-256.06 356.19,-231.06
  rectangle: 234.19,-256.06 258.19,-231.06
  rectangle: 135.19,-256.06 159.19,-231.06
  rectangle: 37.19,-256.06 61.19,-231.06
  rectangle: -60.81,-256.06 -36.81,-231.06
  rectangle: -159.81,-256.06 -135.81,-231.06
  rectangle: -257.81,-256.06 -233.81,-231.06
  rectangle: -356.81,-256.06 -332.81,-231.06
  rectangle: -454.81,-256.06 -430.81,-231.06
  rectangle: -553.81,-256.06 -529.81,-231.06
  rectangle: -651.81,-256.06 -627.81,-231.06
  rectangle: -749.81,-256.06 -725.81,-231.06
  lines w6: -776.81,-231.06 -698.82,-231.06 ; -678.82,-231.06 -600.83,-231.06 ; -580.83,-231.06 -502.8,-231.06 ; -481.81,-231.06 -403.82,-231.06 ; -383.82,-231.06 -305.83,-231.06 ; -284.8,-231.06 -206.81,-231.06 ; -186.81,-231.06 -108.82,-231.06 ; -88.82,-231.06 -10.83,-231.06 ; 9.17,-231.06 87.2,-231.06 ; 108.19,-231.06 186.18,-231.06 ; 206.18,-231.06 284.17,-231.06 ; 307.2,-231.06 384.17,-231.06 ; 404.17,-231.06 482.2,-231.06 ; 503.19,-231.06 581.18,-231.06 ; 601.18,-231.06 679.17,-231.06 ; 699.17,-231.06 777.2,-231.06

## L17P [mil]
pads (17):
  oval 60x120 hole 40: 1(787.4,-246.06) 2(688.98,-246.06) 3(590.55,-246.06) 4(492.13,-246.06) 5(393.7,-246.06) 6(295.28,-246.06) 7(196.85,-246.06) 8(98.43,-246.06) 9(0,-246.06) 10(-98.43,-246.06) 11(-196.85,-246.06) 12(-295.28,-246.06) 13(-393.7,-246.06) 14(-492.13,-246.06) 15(-590.55,-246.06) 16(-688.98,-246.06) 17(-787.4,-246.06)
Top Overlay:
  rectangle: 775.4,-136.06 799.4,123.94
  rectangle: 677.4,-136.06 701.4,123.94
  rectangle: 578.4,-136.06 602.4,123.94
  rectangle: 480.4,-136.06 504.4,123.94
  rectangle: 381.4,-136.06 405.4,123.94
  rectangle: 283.4,-136.06 307.4,123.94
  rectangle: 184.4,-136.06 208.4,123.94
  rectangle: 86.4,-136.06 110.4,123.94
  rectangle: -11.6,-136.06 12.4,123.94
  rectangle: -110.6,-136.06 -86.6,123.94
  rectangle: -208.6,-136.06 -184.6,123.94
  rectangle: -307.6,-136.06 -283.6,123.94
  rectangle: -405.6,-136.06 -381.6,123.94
  rectangle: -504.6,-136.06 -480.6,123.94
  rectangle: -602.6,-136.06 -578.6,123.94
  rectangle: -700.6,-136.06 -676.6,123.94
  rectangle: -799.6,-136.06 -775.6,123.94
  lines w6: -826.61,-231.06 -930.59,-231.06 -930.59,288.94 -850.59,288.94 -830.59,253.94 -830.59,228.94 ; -748.58,-231.06 -728.58,-231.06 ; -650.59,-231.06 -630.59,-231.06 ; -552.6,-231.06 -532.6,-231.06 ; -453.58,-231.06 -433.58,-231.06 ; -355.59,-231.06 -335.59,-231.06 ; -257.6,-231.06 -237.6,-231.06 ; -158.58,-231.06 -138.58,-231.06 ; -59.61,-231.06 -39.61,-231.06 ; 38.39,-231.06 58.39,-231.06 ; 136.42,-231.06 157.4,-231.06 ; 235.39,-231.06 255.39,-231.06 ; 333.39,-231.06 356.42,-231.06 ; 433.39,-231.06 453.39,-231.06 ; 531.42,-231.06 552.4,-231.06 ; 630.39,-231.06 650.39,-231.06 ; 728.39,-231.06 748.39,-231.06 ; 826.42,-231.06 932.4,-231.06 932.4,288.94 853.39,288.94 833.39,253.94 833.39,228.94 ; -830.59,-136.06 833.39,-136.06 ; -830.59,-136.06 -830.59,-171.06 833.39,-171.06 833.39,-136.06 ; -830.59,-136.06 -830.59,228.94 ; -830.59,228.94 833.39,228.94 ; 833.39,-136.06 833.39,228.94
  lines w26: -787.6,118.94 -787.6,138.94 ; -688.58,118.94 -688.58,138.94 ; -590.55,118.94 -590.55,138.94 ; -492.13,118.94 -492.13,138.94 ; -393.7,118.94 -393.7,138.94 ; -295.28,118.94 -295.28,138.94 ; -196.85,118.94 -196.85,138.94 ; -98.43,118.94 -98.43,138.94 ; 0.39,118.94 0.39,138.94 ; 98.39,118.94 98.39,138.94 ; 196.85,118.94 196.85,138.94 ; 295.39,118.94 295.39,138.94 ; 393.39,118.94 393.39,138.94 ; 492.13,118.94 492.13,138.94 ; 590.39,118.94 590.39,138.94 ; 688.98,118.94 688.98,138.94 ; 787.4,118.94 787.4,138.94
  text "1" at 910.4,-171.06 h77.5
  text "17" at -848.6,-176.06 h77.5
Mechanical 16:
  rectangle: 775.4,-256.06 799.4,-231.06
  rectangle: 677.4,-256.06 701.4,-231.06
  rectangle: 578.4,-256.06 602.4,-231.06
  rectangle: 480.4,-256.06 504.4,-231.06
  rectangle: 381.4,-256.06 405.4,-231.06
  rectangle: 283.4,-256.06 307.4,-231.06
  rectangle: 184.4,-256.06 208.4,-231.06
  rectangle: 86.4,-256.06 110.4,-231.06
  rectangle: -11.6,-256.06 12.4,-231.06
  rectangle: -110.6,-256.06 -86.6,-231.06
  rectangle: -208.6,-256.06 -184.6,-231.06
  rectangle: -307.6,-256.06 -283.6,-231.06
  rectangle: -405.6,-256.06 -381.6,-231.06
  rectangle: -504.6,-256.06 -480.6,-231.06
  rectangle: -602.6,-256.06 -578.6,-231.06
  rectangle: -700.6,-256.06 -676.6,-231.06
  rectangle: -799.6,-256.06 -775.6,-231.06
  lines w6: -826.61,-231.06 -748.58,-231.06 ; -727.6,-231.06 -649.61,-231.06 ; -629.61,-231.06 -551.61,-231.06 ; -531.61,-231.06 -453.58,-231.06 ; -432.6,-231.06 -354.61,-231.06 ; -334.61,-231.06 -256.61,-231.06 ; -235.59,-231.06 -157.6,-231.06 ; -137.6,-231.06 -59.61,-231.06 ; -39.61,-231.06 38.39,-231.06 ; 58.39,-231.06 136.42,-231.06 ; 157.4,-231.06 235.39,-231.06 ; 255.39,-231.06 333.39,-231.06 ; 356.42,-231.06 433.39,-231.06 ; 453.39,-231.06 531.42,-231.06 ; 552.4,-231.06 630.39,-231.06 ; 650.39,-231.06 728.39,-231.06 ; 748.39,-231.06 826.42,-231.06